# Altium footprint library TO254P939H584-8.PcbLib: 1 footprints
Each footprint in its own frame and in the unit in brackets; x right, y up, seen from the top. Pads: shape width x height; smd on the part's side, far side on the other; paste and mask are expansions set on the pad; w line width, h text height; cw(c..) or ccw(c..) is an arc to the next point about the centre after c.
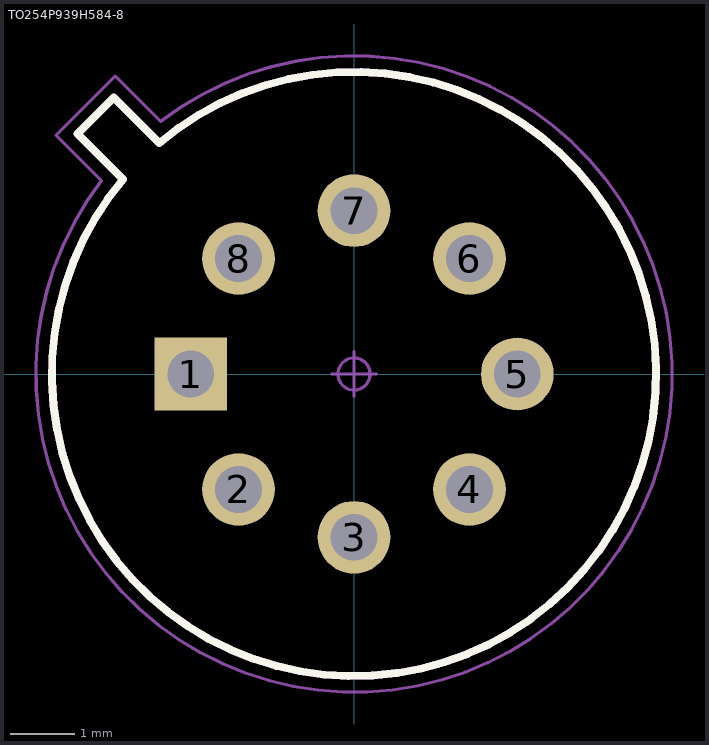
[diagram p0: the footprint, top view; thin cyan lines are the x and y axes]

## TO254P939H584-8 [mm] "TO Cylindrical Style, 2.54 mm pitch; 8 pin, 9.398 mm W X 5.842 mm H body"
height 5.842
pads (8):
  rect 1.13x1.13 hole 0.73 paste-1.13: 1(-2.54,0)
  round 1.13 hole 0.73 paste-1.13: 2(-1.796,-1.796) 3(0,-2.54) 4(1.796,-1.796) 5(2.54,0) 6(1.796,1.796) 7(0,2.54) 8(-1.796,1.796)
Top Overlay:
  lines w0.12: -4.301,3.736 -3.736,4.301 -3.029,3.594 cw(c0,0) -3.594,3.029 -4.301,3.736
Fab - Detail1, HDI1:
  lines w0.12: -4.301,3.736 -3.736,4.301 -3.029,3.594 cw(c0,0) -3.594,3.029 -4.301,3.736
Fab - Detail2, HDI2:
  circle w0.025: c-2.54,0 r0.266
  circle w0.025: c-1.796,-1.796 r0.266
  circle w0.025: c0,-2.54 r0.266
  circle w0.025: c1.796,-1.796 r0.266
  circle w0.025: c2.54,0 r0.266
  circle w0.025: c1.796,1.796 r0.266
  circle w0.025: c0,2.54 r0.266
  circle w0.025: c-1.796,1.796 r0.266
  lines w0.025: -4.301,3.735 -3.735,4.301 -3.028,3.593 cw(c0,0) -3.593,3.028 -4.301,3.735
Courtyards/Models - Top:
  circle w0.05: c0,0 r0.25
  lines w0.05: -0.35,0 0.35,0 ; 0,-0.35 0,0.35 ; -4.637,3.717 -3.717,4.637 -3.01,3.929 cw(c0,0) -3.929,3.01 -4.637,3.717
Courtyards/Models - Bottom:
  text ".Designator" at 0,0 h1.2
3D body: height 5.84, standoff -2, extent -4.696,-4.699 4.694,4.699